# Altium schematic symbol library IRLML6402.SchLib: 1 symbol
Pins are listed as number, name and electrical type; pins without a type are passive.

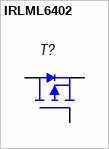
[diagram p0: symbol IRLML6402]

## IRLML6402
designator T?  (value not drawn)
MOSFET P-Channel; Manufacturer: Fairchild semiconductor; Part: BSS123; Package: SOT-23
footprint SOT-23
pins: 1 G, 2 S, 3 D